# Altium footprint library Elreg_Sender.PcbLib: 48 footprints (part 3 of 3)
Each footprint in its own frame and in the unit in brackets; x right, y up, seen from the top. Pads: shape width x height; smd on the part's side, far side on the other; paste and mask are expansions set on the pad; w line width, h text height; cw(c..) or ccw(c..) is an arc to the next point about the centre after c.
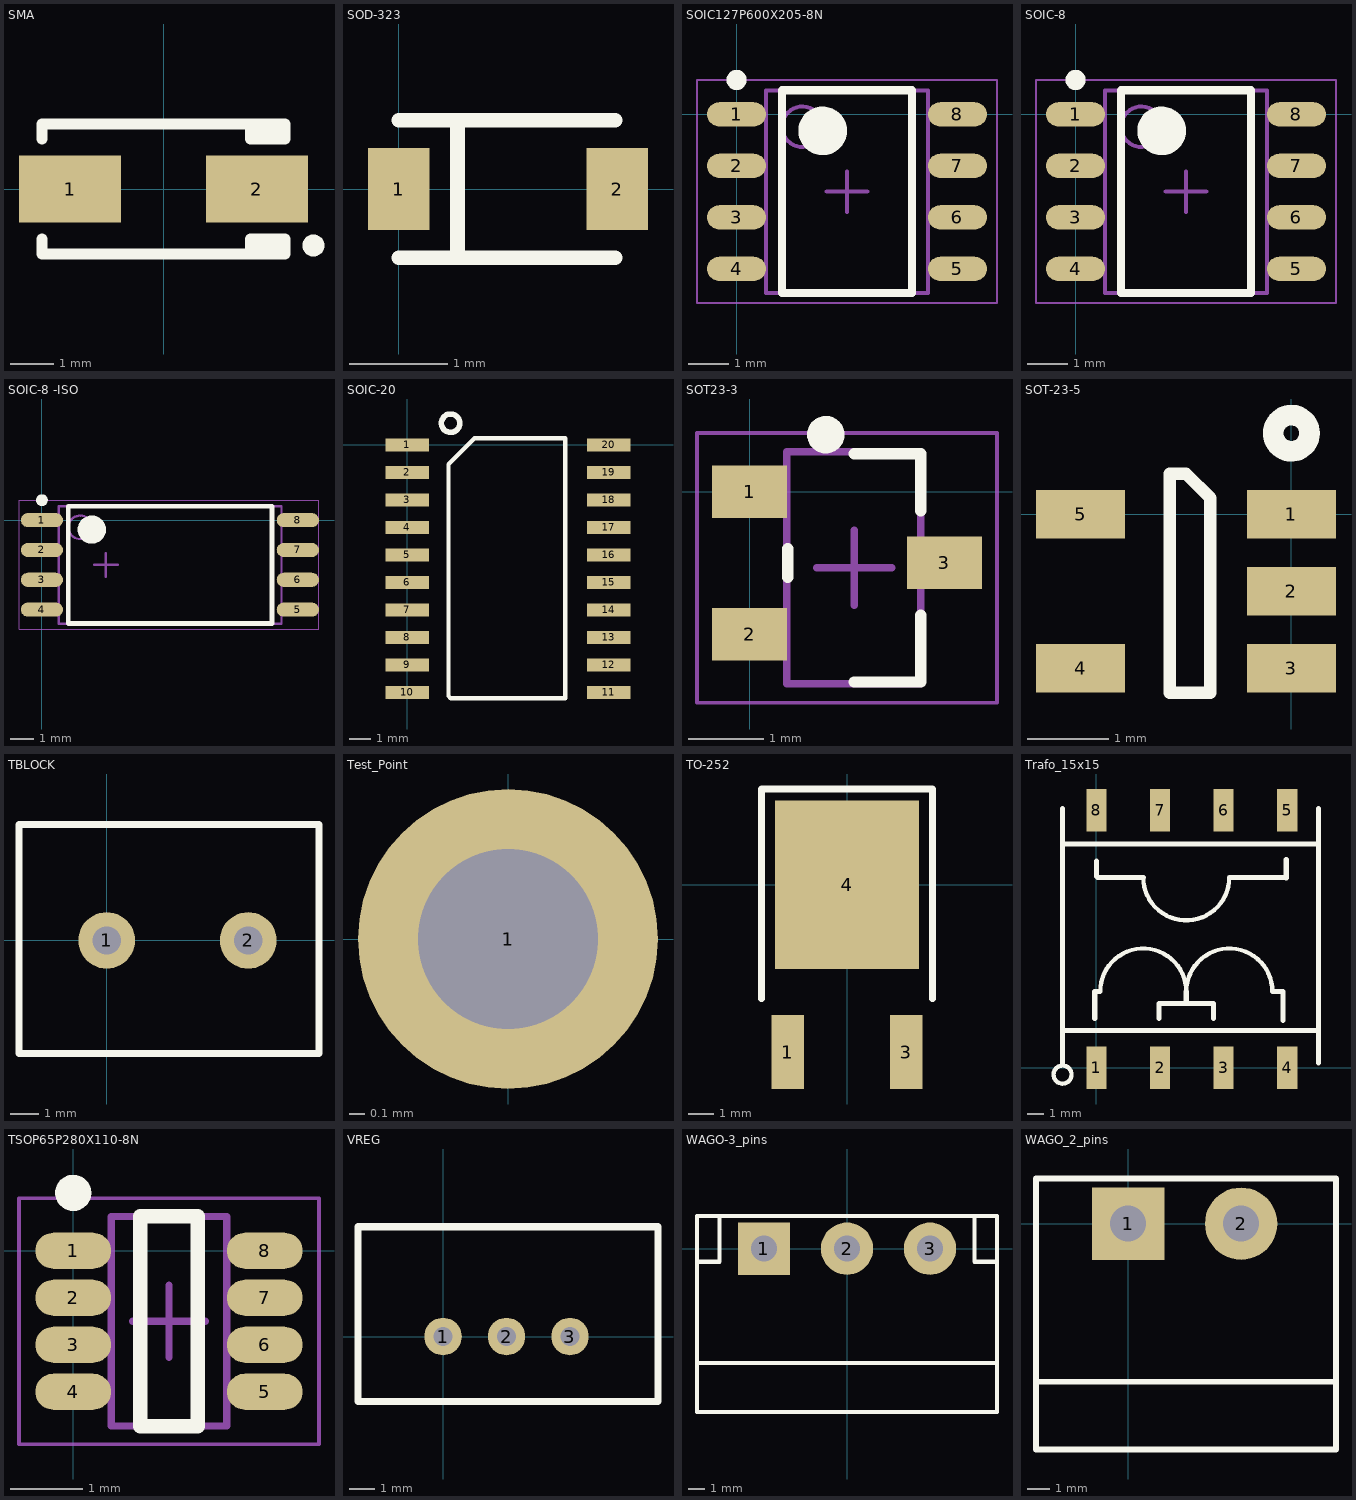
[diagram p2: the footprints below, top view; thin cyan lines are the x and y axes]

## SMA [mm] "DO-214AC"
height 2.03
pads (2):
  rect 2.35x1.55 smd: 1(-2.15,0) 2(2.15,0)
Top Overlay:
  circle w0.254: c3.45,-1.3 r0.127
  lines w0.254: -2.8,-1.15 -2.8,-1.5 2.8,-1.5 2.8,-1.15 2,-1.15 2,-1.5 ; -2.8,1.15 -2.8,1.5 2.8,1.5 2.8,1.15 2,1.15 2,1.5 ; 2.2,-1.5 2.2,-1.15 ; 2.2,1.15 2.2,1.5 ; 2.4,-1.5 2.4,-1.15 ; 2.4,1.15 2.4,1.5 ; 2.6,-1.5 2.6,-1.15 ; 2.6,1.15 2.6,1.5
3D body "SMA.STEP": height 2.64, standoff 0.02, extent -2.6,-1.3 2.6,1.3

## SOD-323 [mm] "diode"
height 1
pads (2):
  rect 0.63x0.83 smd: 1(0,0) 2(2.225,0)
Top Overlay:
  lines w0.152: 0,-0.7 2.2,-0.7 ; 0,0.7 2.2,0.7 ; 0.6,-0.7 0.6,0.7

## SOIC127P600X205-8N [mm] "SOIC, 8-Leads, Body 4.90x3.90mm, Pitch 1.27mm, IPC Medium Density"
height 2.05
pads (8):
  oval 1.45x0.6 smd: 1(0,0) 2(0,-1.27) 3(0,-2.54) 4(0,-3.81) 5(5.45,-3.81) 6(5.45,-2.54) 7(5.45,-1.27) 8(5.45,0)
Top Overlay:
  circle w0.6: c2.125,-0.405 r0.3
  circle w0.25: c0,0.85 r0.125
  lines w0.2: 1.125,-4.405 4.325,-4.405 4.325,0.595 1.125,0.595 1.125,-4.405
Mechanical 13:
  circle w0.1: c1.625,-0.305 r0.5
  lines w0.1: 0.725,-4.405 4.725,-4.405 4.725,0.595 0.725,0.595 0.725,-4.405
Mechanical 15:
  lines w0.05: -0.975,-4.655 6.425,-4.655 6.425,0.845 -0.975,0.845 -0.975,-4.655
  lines w0.1: 2.225,-1.905 3.225,-1.905 ; 2.725,-2.405 2.725,-1.405
3D body: height 2.05, standoff 0.1, extent 0.725,-4.405 4.725,0.595

## SOIC-8 [mm] "TSOP, 8-Leads, Body 4.90x3.90mm, Pitch 1.27mm, IPC Medium Density"
height 1.1
pads (8):
  oval 1.45x0.6 smd: 1(0,0) 2(0,-1.27) 3(0,-2.54) 4(0,-3.81) 5(5.45,-3.81) 6(5.45,-2.54) 7(5.45,-1.27) 8(5.45,0)
Top Overlay:
  circle w0.6: c2.125,-0.405 r0.3
  circle w0.25: c0,0.85 r0.125
  lines w0.2: 1.125,-4.405 4.325,-4.405 4.325,0.595 1.125,0.595 1.125,-4.405
Mechanical 13:
  circle w0.1: c1.625,-0.305 r0.5
  lines w0.1: 0.725,-4.405 4.725,-4.405 4.725,0.595 0.725,0.595 0.725,-4.405
Mechanical 15:
  lines w0.05: -0.975,-4.655 6.425,-4.655 6.425,0.845 -0.975,0.845 -0.975,-4.655
  lines w0.1: 2.225,-1.905 3.225,-1.905 ; 2.725,-2.405 2.725,-1.405
3D body: height 1.1, standoff 0.1, extent 0.725,-4.405 4.725,0.595

## SOIC-8 -ISO [mm] "TSOP, 8-Leads, Body 4.90x3.90mm, Pitch 1.27mm, IPC Medium Density"
height 2.8
pads (8):
  oval 1.8x0.6 smd: 1(0,0) 2(0,-1.27) 3(0,-2.54) 4(0,-3.81) 5(10.9,-3.81) 6(10.9,-2.54) 7(10.9,-1.27) 8(10.9,0)
Top Overlay:
  circle w0.25: c0,0.85 r0.125
  circle w0.6: c2.125,-0.405 r0.3
  lines w0.2: 1.125,-4.405 1.125,0.595 9.8,0.595 9.8,-4.405 1.125,-4.405
Mechanical 13:
  circle w0.1: c1.625,-0.305 r0.5
  lines w0.1: 0.725,-4.405 0.725,0.595 10.2,0.595 10.2,-4.405 0.725,-4.405
Mechanical 15:
  lines w0.05: -0.975,-4.655 -0.975,0.845 11.8,0.845 11.8,-4.655 -0.975,-4.655
  lines w0.1: 2.225,-1.905 3.225,-1.905 ; 2.725,-2.405 2.725,-1.405
3D body: height 1.1, standoff 0.1, extent 0.725,-4.405 10.1,0.595

## SOIC-20 [mm]
height 2.65
pads (20):
  rect 2x0.6 smd: 1(0,0) 2(0,-1.27) 3(0,-2.54) 4(0,-3.81) 5(0,-5.08) 6(0,-6.35) 7(0,-7.62) 8(0,-8.89) 9(0,-10.16) 10(0,-11.43) 11(9.3,-11.43) 12(9.3,-10.16) 13(9.3,-8.89) 14(9.3,-7.62) 15(9.3,-6.35) 16(9.3,-5.08) 17(9.3,-3.81) 18(9.3,-2.54) 19(9.3,-1.27) 20(9.3,0)
Top Overlay:
  circle w0.254: c2,1 r0.424
  lines w0.152: 2,-11.7 7.3,-11.7 7.3,-0.9
  lines w0.2: 1.9,-11.6 2,-11.7 7.3,-11.7 7.3,-0.9 7.3,0.3 3.1,0.3 1.9,-0.9 1.9,-11.6

## SOT23-3 [mm] "SOT23, 3-Leads, Body 2.90x2.55mm, Pitch 0.95mm, IPC Medium Density"
height 1.45
pads (3):
  rect 1x0.7 smd: 1(0,0) 2(0,-1.9) 3(2.6,-0.95)
Top Overlay:
  circle w0.25: c1.016,0.762 r0.125
  lines w0.152: 0.508,-1.143 0.508,-0.762 ; 1.397,-2.54 2.286,-2.54 2.286,-1.651 ; 1.397,0.508 2.286,0.508 2.286,-0.254
Mechanical 13:
  lines w0.1: 0.497,-2.566 0.497,0.534 2.286,0.534 2.286,-2.566 0.497,-2.566
Mechanical 15:
  lines w0.05: -0.703,-2.816 -0.703,0.784 3.302,0.784 3.302,-2.816 -0.703,-2.816
  lines w0.1: 0.897,-1.016 1.897,-1.016 ; 1.397,-1.516 1.397,-0.516
3D body: height 1.45, standoff 0.05, extent 0.497,-2.566 2.297,0.534

## SOT-23-5 [mm] "5 pin SOT23"
height 1.45
pads (5):
  rect 1.1x0.6 smd mask+0.18: 1(0,0) 2(0,-0.95) 3(0,-1.9)
  rect 1.1x0.6 smd: 4(-2.6,-1.9) 5(-2.6,0)
Top Overlay:
  circle w0.254: c0,1 r0.224
  lines w0.152: -1.5,-2.2 -1.5,0.5 -1.3,0.5 -1,0.2 -1,-2.2 -1.5,-2.2

## TBLOCK [mm]
pads (2):
  round 2 hole 1: 1(0,0) 2(5,0)
Top Overlay:
  lines w0.254: -3.1,-4 7.5,-4 7.5,4.1 -3.1,4.1 -3.1,-4
3D body "37818.stp": height 10.5, standoff -3, extent -3.085,-4.05 7.485,4.1

## Test_Point [mm]
height 8
pads (1):
  round 2 hole 1.2: 1(0,0)

## TO-252 [mm] "TO-252, DPAK"
height 2.4
pads (3):
  rect 1.25x2.85 smd: 1(-2.28,-6.45) 3(2.28,-6.45)
  rect 5.55x6.5 smd: 4(0,0)
Top Overlay:
  lines w0.254: -3.3,-4.4 -3.3,3.7 3.3,3.7 3.3,-4.4
3D body "TO-252(DPAK).STEP": height 2.41, standoff 0, extent -3.27,-7.25 3.27,2.688

## Trafo_15x15 [mm]
height 6
pads (8):
  rect 1.2x2.5 smd: 1(0,0) 2(3.75,0) 3(7.5,0) 4(11.25,0) 5(11.25,15.2) 6(7.5,15.2) 7(3.75,15.2) 8(0,15.2)
Top Overlay:
  lines w0.254: -1.475,-0.312 ccw(c-2,-0.4) -1.473,-0.325 ; 0.22,4.5 cw(c2.76,4.5) 5.3,4.5 cw(c7.84,4.5) 10.38,4.5 ; 2.76,11.24 ccw(c5.3,11.24) 7.84,11.24
  lines w0.3: -2,0.3 -2,15.3 ; -2,13.2 13,13.2 ; -1.9,2.2 13.1,2.2 ; -0.1,2.9 -0.1,4.5 0.22,4.5 ; 0,12.2 0,11.3 0.06,11.24 2.76,11.24 ; 3.7,2.9 3.7,3.8 5.3,3.8 ; 5.3,4.5 5.3,3.8 ; 6.9,2.9 6.9,3.8 5.3,3.8 ; 7.84,11.24 11.16,11.24 11.2,11.2 11.2,12.3 ; 10.38,4.5 11,4.5 11,2.8 ; 13.1,0.3 13.1,15.3

## TSOP65P280X110-8N [mm] "TSOP, 8-Leads, Body 2.90x1.60mm, Pitch 0.65mm, IPC Medium Density"
height 1.1
pads (8):
  oval 1.05x0.5 smd: 1(0,0) 2(0,-0.65) 3(0,-1.3) 4(0,-1.95) 5(2.65,-1.95) 6(2.65,-1.3) 7(2.65,-0.65) 8(2.65,0)
Top Overlay:
  circle w0.25: c0,0.8 r0.125
  lines w0.2: 0.925,-2.425 0.925,0.475 1.725,0.475 1.725,-2.425 0.925,-2.425
Mechanical 13:
  lines w0.1: 0.525,-2.425 0.525,0.475 2.125,0.475 2.125,-2.425 0.525,-2.425
Mechanical 15:
  lines w0.05: -0.75,-2.675 -0.75,0.725 3.4,0.725 3.4,-2.675 -0.75,-2.675
  lines w0.1: 0.825,-0.975 1.825,-0.975 ; 1.325,-1.475 1.325,-0.475
3D body: height 1.1, standoff 0.1, extent 0.525,-2.425 2.125,0.475

## VREG [mm]
pads (3):
  round 1.5 hole 0.75: 1(0,0) 2(2.54,0) 3(5.08,0)
Top Overlay:
  lines w0.3: -3.4,-2.6 -3.4,4.4 8.6,4.4 8.6,-2.6 -3.4,-2.6

## WAGO-3_pins [mm] "3 pin connector"
height 8.2
pads (3):
  rect 3.2x3.2 hole 1.6: 1(-5.08,0)
  round 3.2 hole 1.6: 2(0,0) 3(5.08,0)
Top Overlay:
  lines w0.254: -9.18,-7 9.18,-7 ; -9.18,-0.8 -7.8,-0.8 -7.8,2 ; 7.8,2 7.8,-0.8 9.18,-0.8 ; -9.18,-10 -9.18,2 9.18,2 9.18,-10 -9.18,-10
3D body "WAGO 231-533_001-000.step": height 8.4, standoff -4.1, extent -9.1,-10 9.1,2

## WAGO_2_pins [mm]
height 8.2
pads (2):
  rect 3.2x3.2 hole 1.6: 1(0,0)
  round 3.2 hole 1.6: 2(5,0)
Top Overlay:
  lines w0.254: -4.08,-7 9.2,-7 ; -4.08,-10 9.2,-10 9.2,2 -4.08,2 -4.08,-10